# EAGLE library part ARDUINO_NANO (library Aldar)
Arduino NANO R3
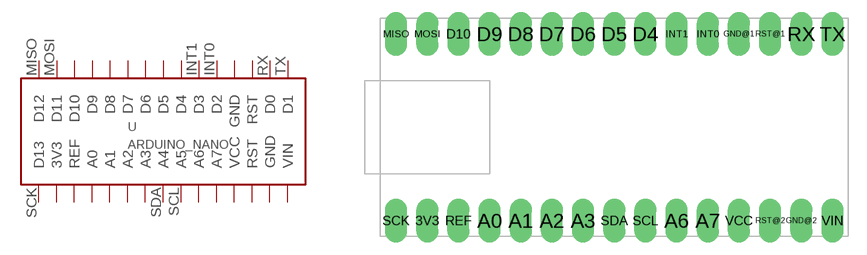
[diagram p0: symbol with the pads of ARDUINO-NANO; footprint ARDUINO-NANO]

Designator prefix -

## ARDUINO_NANOR3  [ARDUINO-NANO]
3V3  3V3  pwr
A0  A0
A1  A1
A2  A2
A3  A3
A6  A6
A7  A7
D4  D4
D5  D5
D6  D6
D7  D7
D8  D8
D9  D9
D10  D10
GND@1  GND  pwr
GND@2  GND  pwr
INT0  D2
INT1  D3
MISO  D12
MOSI  D11
REF  REF
RST@1  RST
RST@2  RST
RX  D0
SCK  D13
SCL  A5
SDA  A4
TX  D1
VCC  VCC  pwr
VIN  VIN  pwr

## Footprint ARDUINO-NANO (pad centres in mm)
Arduino NANO R3 package
drill 0.5 pad 1.778 long: 3V3 -15.24,-7.62; A0 -10.16,-7.62; A1 -7.62,-7.62; A2 -5.08,-7.62; A3 -2.54,-7.62; A6 5.08,-7.62; A7 7.62,-7.62; D4 2.54,7.62; D5 0,7.62; D6 -2.54,7.62; D7 -5.08,7.62; D8 -7.62,7.62; D9 -10.16,7.62; D10 -12.7,7.62; GND@1 10.16,7.62; GND@2 15.24,-7.62; INT0 7.62,7.62; INT1 5.08,7.62; MISO -17.78,7.62; MOSI -15.24,7.62; REF -12.7,-7.62; RST@1 12.7,7.62; RST@2 12.7,-7.62; RX 15.24,7.62; SCK -17.78,-7.62; SCL 2.54,-7.62; SDA 0,-7.62; TX 17.78,7.62; VCC 10.16,-7.62; VIN 17.78,-7.62